# EAGLE library part QUECTEL-GC10-LIMITED (library X893)
GC10
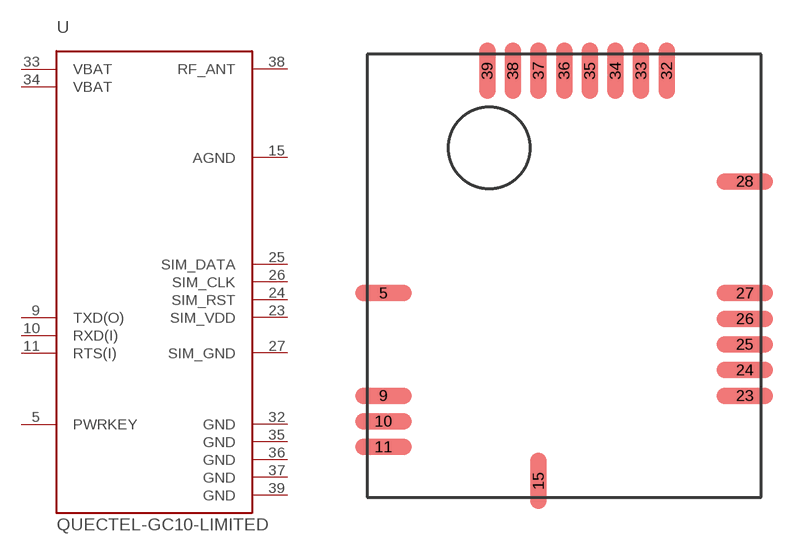
[diagram p220: symbol with the pads of QUECTEL-GC10-LIMITED; footprint QUECTEL-GC10-LIMITED]

Designator prefix U

## QUECTEL-GC10-LIMITED  [QUECTEL-GC10-LIMITED]
5  PWRKEY  in
9  TXD(O)  out
10  RXD(I)  in
11  RTS(I)  in
15  AGND  pas
23  SIM_VDD  in
24  SIM_RST  out
25  SIM_DATA
26  SIM_CLK  out
27  SIM_GND  in
32  GND  pwr
33  VBAT  pas
34  VBAT  pas
35  GND  pwr
36  GND  pwr
37  GND  pwr
38  RF_ANT  pas
39  GND  pwr

## Footprint QUECTEL-GC10-LIMITED (pad centres in mm)
GC10
smd 2.4 x 0.7: 5 -7.75,-0.75; 9 -7.75,-5.15; 10 -7.75,-6.25; 11 -7.75,-7.35; 23 7.75,-5.15; 24 7.75,-4.05; 25 7.75,-2.95; 26 7.75,-1.85; 27 7.75,-0.75; 28 7.75,4.05
smd 0.7 x 2.4: 15 -1.1,-8.8; 32 4.4,8.8; 33 3.3,8.8; 34 2.2,8.8; 35 1.1,8.8; 36 0,8.8; 37 -1.1,8.8; 38 -2.2,8.8; 39 -3.3,8.8